# Altium integrated library MF-CAP.IntLib: 28 symbols
Pins are listed as number, name and electrical type; pins without a type are passive.

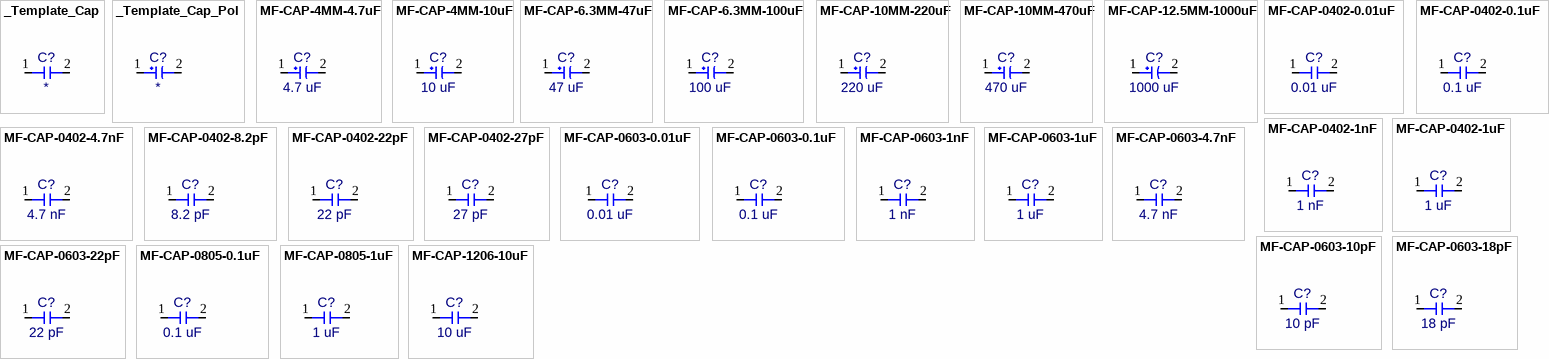
[diagram p0: symbols _Template_Cap to MF-CAP-1206-10uF]

## _Template_Cap
designator C?, comment MF-CAP-  (value not drawn)
Type: *; Operating Temperature Range: *; Value: *; Dielectric: *; RoHS: *; Voltage Rating: *; Tolerance: *; Package: *; ComponentLink1Description: Datasheet; ComponentLink1URL: *; ComponentLink2Description: Supplier Link 1; ComponentLink2URL: *; Supplier 1: Macrofab; Supplier Part Number 1: *; Manufacturer 1: *; Manufacturer Part Number 1: *; Capacitance: *; Mount: SMD
pins: 1, 2

## _Template_Cap_Pol
designator C?, comment MF-CAP-  (value not drawn)
Type: *; Operating Temperature Range: *; Value: *; Case Height: *; RoHS: *; Voltage Rating: *; Tolerance: *; Case Diameter: *; ComponentLink1Description: Datasheet; ComponentLink1URL: *; ComponentLink2Description: Supplier Link 1; ComponentLink2URL: *; Supplier 1: Macrofab; Supplier Part Number 1: *; Manufacturer 1: *; Manufacturer Part Number 1: *; Capacitance: *; Mount: SMD
pins: 1 "+", 2 "-"

## MF-CAP-4MM-4.7uF
designator C?  Capacitance: 4.7 uF  (hidden comment: MF-CAP-4MM-4.7uF)
Capacitor Aluminum Electrolytic 4mm 4.7uF 20% 35V; Manufacturer 1: Panasonic; Manufacturer Part Number 1: EEE1VA4R7AR; Type: Aluminum Electrolytic Capacitors - SMD; Value: 0.0000047; Case Height: 5.5 mm; Operating Temperature Range: - 40 C to + 105 C; RoHS: Compliant; Voltage Rating: 35V; Tolerance: 20%; Case Diameter: 4 mm; ComponentLink1Description: Datasheet; ComponentLink1URL: https://s3.amazonaws.com/devpublic1/datasheets/ABA0000CE115-68351.pdf; ComponentLink2Description: Supplier Link 1; ComponentLink2URL: https://factory.macrofab.com/part/MF-CAP-4MM-4.7uF; Supplier 1: Macrofab; Supplier Part Number 1: MF-CAP-4MM-4.7uF; Mount: SMD
footprint CAP_SMD_4mm (Aluminum Electrolytic Capacitor, Body 4.30x4.30x5.50mm, IPC Medium Density)
pins: 1 "+", 2 "-"

## MF-CAP-4MM-10uF
designator C?  Capacitance: 10 uF  (hidden comment: MF-CAP-4MM-10uF)
Capacitor Aluminum Electrolytic 4mm 10uF 20% 35V; Manufacturer 1: Panasonic; Manufacturer Part Number 1: EEE1VA100WAR; Type: Aluminum Electrolytic Capacitors - SMD; Value: 0.00001; Case Height: 5.5 mm; Operating Temperature Range: - 40 C to + 85 C; RoHS: Compliant; Voltage Rating: 35V; Tolerance: 20%; Case Diameter: 4 mm; ComponentLink1Description: Datasheet; ComponentLink1URL: https://s3.amazonaws.com/devpublic1/datasheets/ABA0000CE115-68351.pdf; ComponentLink2Description: Supplier Link 1; ComponentLink2URL: https://factory.macrofab.com/part/MF-CAP-4MM-10uF; Supplier 1: Macrofab; Supplier Part Number 1: MF-CAP-4MM-10uF; Mount: SMD
footprint CAP_SMD_4mm (Aluminum Electrolytic Capacitor, Body 4.30x4.30x5.50mm, IPC Medium Density)
pins: 1 "+", 2 "-"

## MF-CAP-6.3MM-47uF
designator C?  Capacitance: 47 uF  (hidden comment: MF-CAP-6.3MM-47uF)
Capacitor Aluminum Electrolytic 6.3mm 47uF 20% 35V; Manufacturer 1: Panasonic; Manufacturer Part Number 1: EEE1VA470WAP; Type: Aluminum Electrolytic Capacitors - SMD; Value: 0.000047; Case Height: 7.8 mm; Operating Temperature Range: - 40 C to + 85 C; RoHS: Compliant; Voltage Rating: 35V; Tolerance: 20%; Case Diameter: 6.3 mm; ComponentLink1Description: Datasheet; ComponentLink1URL: https://s3.amazonaws.com/devpublic1/datasheets/ABA0000CE115-68351.pdf; ComponentLink2Description: Supplier Link 1; ComponentLink2URL: https://factory.macrofab.com/part/MF-CAP-6.3MM-47uF; Supplier 1: Macrofab; Supplier Part Number 1: MF-CAP-6.3MM-47uF; Mount: SMD
footprint CAP_SMD_6.3mm (Aluminum Electrolytic Capacitor, Body 6.60x6.60x8.00mm, IPC Medium Density)
pins: 1 "+", 2 "-"

## MF-CAP-6.3MM-100uF
designator C?  Capacitance: 100 uF  (hidden comment: MF-CAP-6.3MM-100uF)
Capacitor Aluminum Electrolytic 6.3mm 100uF 20% 35V; Manufacturer 1: Panasonic; Manufacturer Part Number 1: EEE1VA101XAP; Type: Aluminum Electrolytic Capacitors - SMD; Value: 0.000100; Case Height: 7.8 mm; Operating Temperature Range: - 55 C to + 85 C; RoHS: Compliant; Voltage Rating: 35V; Tolerance: 20%; Case Diameter: 6.3 mm; ComponentLink1Description: Datasheet; ComponentLink1URL: https://s3.amazonaws.com/devpublic1/datasheets/ABA0000CE115-68351.pdf; ComponentLink2Description: Supplier Link 1; ComponentLink2URL: https://factory.macrofab.com/part/MF-CAP-6.3MM-100uF; Supplier 1: Macrofab; Supplier Part Number 1: MF-CAP-6.3MM-100uF; Mount: SMD
footprint CAP_SMD_6.3mm (Aluminum Electrolytic Capacitor, Body 6.60x6.60x8.00mm, IPC Medium Density)
pins: 1 "+", 2 "-"

## MF-CAP-10MM-220uF
designator C?  Capacitance: 220 uF  (hidden comment: MF-CAP-10MM-220uF)
Capacitor Aluminum Electrolytic 10mm 220uF 20% 35V; Manufacturer 1: Panasonic; Manufacturer Part Number 1: EEE1VA221AP; Type: Aluminum Electrolytic Capacitors - SMD; Value: 0.000220; Case Height: 10.5 mm; Operating Temperature Range: - 40 C to + 85 C; RoHS: Compliant; Voltage Rating: 35V; Tolerance: 20%; Case Diameter: 10 mm; ComponentLink1Description: Datasheet; ComponentLink1URL: https://s3.amazonaws.com/devpublic1/datasheets/ABA0000CE115-68351.pdf; ComponentLink2Description: Supplier Link 1; ComponentLink2URL: https://factory.macrofab.com/part/MF-CAP-10MM-220uF; Supplier 1: Macrofab; Supplier Part Number 1: MF-CAP-10MM-220uF; Mount: SMD
footprint CAP_SMD_10mm (Aluminum Electrolytic Capacitor, Body 10.30x10.30x10.50mm, IPC Medium Density)
pins: 1 "+", 2 "-"

## MF-CAP-10MM-470uF
designator C?  Capacitance: 470 uF  (hidden comment: MF-CAP-10MM-470uF)
Capacitor Aluminum Electrolytic 10mm 470uF 20% 25V; Manufacturer 1: Panasonic; Manufacturer Part Number 1: EEE1EA471UAP; Type: Aluminum Electrolytic Capacitors - SMD; Value: 0.00047; Case Height: 12 mm; Operating Temperature Range: - 40 C to + 85 C; RoHS: Compliant; Voltage Rating: 25V; Tolerance: 20%; Case Diameter: 10 mm; ComponentLink1Description: Datasheet; ComponentLink1URL: https://s3.amazonaws.com/devpublic1/datasheets/ABA0000CE120.pdf; ComponentLink2Description: Supplier Link 1; ComponentLink2URL: https://factory.macrofab.com/part/MF-CAP-12.5MM-1000uF; Supplier 1: Macrofab; Supplier Part Number 1: MF-CAP-10MM-470uF; Mount: SMD
footprint CAP_SMD_10mm (Aluminum Electrolytic Capacitor, Body 10.30x10.30x10.50mm, IPC Medium Density)
pins: 1 "+", 2 "-"

## MF-CAP-12.5MM-1000uF
designator C?  Capacitance: 1000 uF  (hidden comment: MF-CAP-12.5MM-1000uF)
Capacitor Aluminum Electrolytic 10mm 220uF 20% 35V; Manufacturer 1: Panasonic; Manufacturer Part Number 1: EEVFK1E102Q; Type: Aluminum Electrolytic Capacitors - SMD; Value: 0.001; Case Height: 13.5 mm; Voltage Rating: 25V; Case Diameter: 12.5 mm; Operating Temperature Range: - 40 C to + 85 C; RoHS: Compliant; Tolerance: 20%; ComponentLink1Description: Datasheet; ComponentLink1URL: https://s3.amazonaws.com/devpublic1/datasheets/ABA0000CE120.pdf; ComponentLink2Description: Supplier Link 1; ComponentLink2URL: https://factory.macrofab.com/part/MF-CAP-12.5MM-1000uF; Supplier 1: Macrofab; Supplier Part Number 1: MF-CAP-12.5MM-1000uF; Mount: SMD
footprint CAP_SMD_12.5mm (Aluminum Electrolytic Capacitor, Body 13.50x13.50x14.00mm, IPC Medium Density)
pins: 1 "+", 2 "-"

## MF-CAP-0402-0.01uF
designator C?  Capacitance: 0.01 uF  (hidden comment: MF-CAP-0402-0.01uF)
Capacitor MLCC 0402 0.01uF 5% 25V; Manufacturer 1: Vishay; Type: Multilayer Ceramic Capacitors (MLCC); Value: 0.00000001; Dielectric: X7R; Operating Temperature Range: - 55 C to + 125 C; RoHS: Compliant; Voltage Rating: 25V; Tolerance: 5%; Package: 0402; ComponentLink1Description: Datasheet; ComponentLink1URL: https://s3.amazonaws.com/devpublic1/datasheets/VJ_W1BC_Caps.pdf; ComponentLink2Description: Supplier Link 1; ComponentLink2URL: https://factory.macrofab.com/part/MF-CAP-0402-0.01uF; Supplier 1: Macrofab; Supplier Part Number 1: MF-CAP-0402-0.01uF; Manufacturer Part Number 1: *; Mount: SMD
footprint C0402 (0402 (1005 Metric))
pins: 1, 2

## MF-CAP-0402-0.1uF
designator C?  Capacitance: 0.1 uF  (hidden comment: MF-CAP-0402-0.1uF)
Capacitor MLCC 0402 0.1uF 10% 16V; Manufacturer 1: Murata; Manufacturer Part Number 1: GRM155R71C104KA88D; Type: Multilayer Ceramic Capacitors (MLCC); Value: 0.0000001; Dielectric: X7R; Operating Temperature Range: - 55 C to + 125 C; RoHS: Compliant; Voltage Rating: 16V; Tolerance: 10%; Package: 0402; ComponentLink1Description: Datasheet; ComponentLink1URL: https://s3.amazonaws.com/devpublic1/datasheets/GRM155R71C104KA88.pdf; ComponentLink2Description: Supplier Link 1; ComponentLink2URL: https://factory.macrofab.com/part/MF-CAP-0402-0.1uF; Supplier 1: Macrofab; Supplier Part Number 1: MF-CAP-0402-0.1uF; Mount: SMD
footprint C0402 (0402 (1005 Metric))
pins: 1, 2

## MF-CAP-0402-1nF
designator C?  Capacitance: 1 nF  (hidden comment: MF-CAP-0402-1nF)
Capacitor MLCC 0402 1nF 5% 50V; Manufacturer 1: Murata; Manufacturer Part Number 1: GRM155R71H102JA01D; Type: Multilayer Ceramic Capacitors (MLCC); Value: 0.000000001; Dielectric: X7R; Operating Temperature Range: - 55 C to + 125 C; RoHS: Compliant; Voltage Rating: 50V; Tolerance: 5%; Package: 0402; ComponentLink1Description: Datasheet; ComponentLink1URL: https://s3.amazonaws.com/devpublic1/datasheets/GRM155R71H102JA01J.pdf; ComponentLink2Description: Supplier Link 1; ComponentLink2URL: https://factory.macrofab.com/part/MF-CAP-0402-1nF; Supplier 1: Macrofab; Supplier Part Number 1: MF-CAP-0402-1nF; Mount: SMD
footprint C0402 (0402 (1005 Metric))
pins: 1, 2

## MF-CAP-0402-1uF
designator C?  Capacitance: 1 uF  (hidden comment: MF-CAP-0402-1uF)
Capacitor MLCC 0402 1uF 10% 16V; Manufacturer 1: TDK; Manufacturer Part Number 1: C1005X5R1C105K050BC; Type: Multilayer Ceramic Capacitors (MLCC); Value: 0.000001; Dielectric: X5R; Operating Temperature Range: - 55 C to + 85 C; RoHS: Compliant; Voltage Rating: 16V; Tolerance: 10%; Package: 0402; ComponentLink1Description: Datasheet; ComponentLink1URL: https://s3.amazonaws.com/devpublic1/datasheets/C1005X5R1C105K050BC-264364.pdf; ComponentLink2Description: Supplier Link 1; ComponentLink2URL: https://factory.macrofab.com/part/MF-CAP-0402-1uF; Supplier 1: Macrofab; Supplier Part Number 1: MF-CAP-0402-1uF; Mount: SMD
footprint C0402 (0402 (1005 Metric))
pins: 1, 2

## MF-CAP-0402-4.7nF
designator C?  Capacitance: 4.7 nF  (hidden comment: MF-CAP-0402-4.7nF)
Capacitor MLCC 0402 4.7nF 5% 50V; Manufacturer 1: Murata; Manufacturer Part Number 1: GRM155R71H472JA01D; Type: Multilayer Ceramic Capacitors (MLCC); Value: 0.0000000047; Dielectric: X7R; Operating Temperature Range: - 55 C to + 125 C; RoHS: Compliant; Voltage Rating: 50V; Tolerance: 5%; Package: 0402; ComponentLink1Description: Datasheet; ComponentLink1URL: https://s3.amazonaws.com/devpublic1/datasheets/GRM155R71H472JA01D.pdf; ComponentLink2Description: Supplier Link 1; ComponentLink2URL: https://factory.macrofab.com/part/MF-CAP-0402-4.7nF; Supplier 1: Macrofab; Supplier Part Number 1: MF-CAP-0402-4.7nF; Mount: SMD
footprint C0402 (0402 (1005 Metric))
pins: 1, 2

## MF-CAP-0402-8.2pF
designator C?  Capacitance: 8.2 pF  (hidden comment: MF-CAP-0402-8.2pF)
Capacitor MLCC 0402 8.2pF +/-0.25pF 25V; Manufacturer 1: Murata; Manufacturer Part Number 1: GRM1555C1E8R2CA01D; Type: Multilayer Ceramic Capacitors (MLCC); Value: 0.0000000000082; Dielectric: C0G (NP0); Operating Temperature Range: - 55 C to + 125 C; RoHS: Compliant; Voltage Rating: 25V; Tolerance: +/-0.25pF; Package: 0402; ComponentLink1Description: Datasheet; ComponentLink1URL: https://s3.amazonaws.com/devpublic1/datasheets/GRM1555C1E8R2CA01D.pdf; ComponentLink2Description: Supplier Link 1; ComponentLink2URL: https://factory.macrofab.com/part/MF-CAP-0402-8.2pF; Supplier 1: Macrofab; Supplier Part Number 1: MF-CAP-0402-8.2pF; Mount: SMD
footprint C0402 (0402 (1005 Metric))
pins: 1, 2

## MF-CAP-0402-22pF
designator C?  Capacitance: 22 pF  (hidden comment: MF-CAP-0402-22pF)
Capacitor MLCC 0402 22pF 5% 50V; Manufacturer 1: Murata; Manufacturer Part Number 1: GRM1555C1H220JA01D; Type: Multilayer Ceramic Capacitors (MLCC); Value: 0.000000000022; Dielectric: C0G (NP0); Operating Temperature Range: - 55 C to + 125 C; RoHS: Compliant; Voltage Rating: 50V; Tolerance: 5%; Package: 0402; ComponentLink1Description: Datasheet; ComponentLink1URL: https://s3.amazonaws.com/devpublic1/datasheets/GRM1555C1H220JA01D.pdf; ComponentLink2Description: Supplier Link 1; ComponentLink2URL: https://factory.macrofab.com/part/MF-CAP-0402-22pF; Supplier 1: Macrofab; Supplier Part Number 1: MF-CAP-0402-22pF; Mount: SMD
footprint C0402 (0402 (1005 Metric))
pins: 1, 2

## MF-CAP-0402-27pF
designator C?  Capacitance: 27 pF  (hidden comment: MF-CAP-0402-27pF)
Capacitor MLCC 0402 27pF 5% 50V; Manufacturer 1: Murata; Manufacturer Part Number 1: GRM1555C1H270JA01D; Type: Multilayer Ceramic Capacitors (MLCC); Value: 0.000000000027; Dielectric: C0G (NP0); Operating Temperature Range: - 55 C to + 125 C; RoHS: Compliant; Voltage Rating: 50V; Tolerance: 5%; Package: 0402; ComponentLink1Description: Datasheet; ComponentLink1URL: https://s3.amazonaws.com/devpublic1/datasheets/GRM1555C1H270JA01D.pdf; ComponentLink2Description: Supplier Link 1; ComponentLink2URL: https://factory.macrofab.com/part/MF-CAP-0402-27pF; Supplier 1: Macrofab; Supplier Part Number 1: MF-CAP-0402-27pF; Mount: SMD
footprint C0402 (0402 (1005 Metric))
pins: 1, 2

## MF-CAP-0603-0.01uF
designator C?  Capacitance: 0.01 uF  (hidden comment: MF-CAP-0603-0.01uF)
Capacitor MLCC 0603 0.01uF 10% 50V; Manufacturer 1: AVX; Type: Multilayer Ceramic Capacitors (MLCC); Value: 0.00000001; Dielectric: X7R; Operating Temperature Range: - 55 C to + 125 C; RoHS: Compliant; Voltage Rating: 50V; Tolerance: 10%; Package: 0603; ComponentLink1Description: Datasheet; ComponentLink1URL: https://s3.amazonaws.com/devpublic1/datasheets/AVX_X7R%20Caps.pdf; ComponentLink2Description: Supplier Link 1; ComponentLink2URL: https://factory.macrofab.com/part/MF-CAP-0603-0.01uF; Supplier 1: Macrofab; Supplier Part Number 1: MF-CAP-0603-0.01uF; Manufacturer Part Number 1: *; Mount: SMD
footprint C0603 (0603 (1608 Metric))
pins: 1, 2

## MF-CAP-0603-0.1uF
designator C?  Capacitance: 0.1 uF  (hidden comment: MF-CAP-0603-0.1uF)
Capacitor MLCC 0603 0.1uF 10% 25V; Manufacturer 1: Murata; Manufacturer Part Number 1: GRM188R71E104KA01D; Type: Multilayer Ceramic Capacitors (MLCC); Value: 0.0000001; Dielectric: X7R; Operating Temperature Range: - 55 C to + 125 C; RoHS: Compliant; Voltage Rating: 25V; Tolerance: 10%; Package: 0603; ComponentLink1Description: Datasheet; ComponentLink1URL: https://s3.amazonaws.com/devpublic1/datasheets/GRM188R71E104KA01D.pdf; ComponentLink2Description: Supplier Link 1; ComponentLink2URL: https://factory.macrofab.com/part/MF-CAP-0603-0.1uF; Supplier 1: Macrofab; Supplier Part Number 1: MF-CAP-0603-0.1uF; Mount: SMD
footprint C0603 (0603 (1608 Metric))
pins: 1, 2

## MF-CAP-0603-1nF
designator C?  Capacitance: 1 nF  (hidden comment: MF-CAP-0603-1nF)
Capacitor MLCC 0603 1nF 10% 50V; Manufacturer 1: Kemet; Type: Multilayer Ceramic Capacitors (MLCC); Value: 0.000000001; Dielectric: X7R; Operating Temperature Range: - 55 C to + 125 C; RoHS: Compliant; Voltage Rating: 50V; Tolerance: 10%; Package: 0603; ComponentLink1Description: Datasheet; ComponentLink1URL: https://s3.amazonaws.com/devpublic1/datasheets/KEM_C1002_X7R_SMD.pdf; ComponentLink2Description: Supplier Link 1; ComponentLink2URL: https://factory.macrofab.com/part/MF-CAP-0603-1nF; Supplier 1: Macrofab; Supplier Part Number 1: MF-CAP-0603-1nF; Manufacturer Part Number 1: *; Mount: SMD
footprint C0603 (0603 (1608 Metric))
pins: 1, 2

## MF-CAP-0603-1uF
designator C?  Capacitance: 1 uF  (hidden comment: MF-CAP-0603-1uF)
Capacitor MLCC 0603 1uF 10% 25V; Manufacturer 1: Taiyo Yuden; Manufacturer Part Number 1: TMK107B7105KA-T; Type: Multilayer Ceramic Capacitors (MLCC); Value: 0.000001; Dielectric: X7R; Operating Temperature Range: - 55 C to + 125 C; RoHS: Compliant; Voltage Rating: 25V; Tolerance: 10%; Package: 0603; ComponentLink1Description: Datasheet; ComponentLink1URL: https://s3.amazonaws.com/devpublic1/datasheets/TMK107B7105KA-T_SS.pdf; ComponentLink2Description: Supplier Link 1; ComponentLink2URL: https://factory.macrofab.com/part/MF-CAP-0603-1uF; Supplier 1: Macrofab; Supplier Part Number 1: MF-CAP-0603-1uF; Mount: SMD
footprint C0603 (0603 (1608 Metric))
pins: 1, 2

## MF-CAP-0603-4.7nF
designator C?  Capacitance: 4.7 nF  (hidden comment: MF-CAP-0603-4.7nF)
Capacitor MLCC 0603 4.7nF 10% 50V; Manufacturer 1: Kemet; Type: Multilayer Ceramic Capacitors (MLCC); Value: 0.0000000047; Dielectric: X7R; Operating Temperature Range: - 55 C to + 125 C; RoHS: Compliant; Voltage Rating: 50V; Tolerance: 10%; Package: 0603; ComponentLink1Description: Datasheet; ComponentLink1URL: https://s3.amazonaws.com/devpublic1/datasheets/KEM_C1002_X7R_SMD.pdf; ComponentLink2Description: Supplier Link 1; ComponentLink2URL: https://factory.macrofab.com/part/MF-CAP-0603-4.7nF; Supplier 1: Macrofab; Supplier Part Number 1: MF-CAP-0603-4.7nF; Manufacturer Part Number 1: *; Mount: SMD
footprint C0603 (0603 (1608 Metric))
pins: 1, 2

## MF-CAP-0603-10pF
designator C?  Capacitance: 10 pF  (hidden comment: MF-CAP-0603-10pF)
Capacitor MLCC 0603 10pF 50V C0G +/- 0.5pF; Manufacturer 1: TDK; Type: Multilayer Ceramic Capacitors (MLCC); Value: 0.000000000010; Dielectric: C0G (NP0); Operating Temperature Range: - 55 C to + 125 C; RoHS: Compliant; Voltage Rating: 50V; Tolerance: +/- 0.5pF; Package: 0603; ComponentLink1Description: Datasheet; ComponentLink1URL: https://s3.amazonaws.com/mfprodpublic/datasheets/mlcc_commercial_general_en.pdf; ComponentLink2Description: Supplier Link 1; ComponentLink2URL: https://factory.macrofab.com/part/MF-CAP-0603-10pF; Supplier 1: Macrofab; Supplier Part Number 1: MF-CAP-0603-10pF; Manufacturer Part Number 1: *; Mount: SMD
footprint C0603 (0603 (1608 Metric))
pins: 1, 2

## MF-CAP-0603-18pF
designator C?  Capacitance: 18 pF  (hidden comment: MF-CAP-0603-18pF)
Capacitor MLCC 0603 18pF 5% 50V; Manufacturer 1: Kemet; Type: Multilayer Ceramic Capacitors (MLCC); Value: 0.000000000018; Dielectric: C0G (NP0); Operating Temperature Range: - 55 C to + 125 C; RoHS: Compliant; Voltage Rating: 50V; Tolerance: 5%; Package: 0603; ComponentLink1Description: Datasheet; ComponentLink1URL: https://s3.amazonaws.com/devpublic1/datasheets/KEM_C1003_C0G_SMD-379434.pdf; ComponentLink2Description: Supplier Link 1; ComponentLink2URL: https://factory.macrofab.com/part/MF-CAP-0603-18pF; Supplier 1: Macrofab; Supplier Part Number 1: MF-CAP-0603-18pF; Manufacturer Part Number 1: *; Mount: SMD
footprint C0603 (0603 (1608 Metric))
pins: 1, 2

## MF-CAP-0603-22pF
designator C?  Capacitance: 22 pF  (hidden comment: MF-CAP-0603-22pF)
Capacitor MLCC 0603 22pF 5% 100V; Manufacturer 1: Kemet; Type: Multilayer Ceramic Capacitors (MLCC); Value: 0.000000000022; Dielectric: C0G (NP0); Operating Temperature Range: - 55 C to + 125 C; RoHS: Compliant; Voltage Rating: 100V; Tolerance: 5%; Package: 0603; ComponentLink1Description: Datasheet; ComponentLink1URL: https://s3.amazonaws.com/devpublic1/datasheets/KEM_C1003_C0G_SMD-380471.pdf; ComponentLink2Description: Supplier Link 1; ComponentLink2URL: https://factory.macrofab.com/part/MF-CAP-0603-22pF; Supplier 1: Macrofab; Supplier Part Number 1: MF-CAP-0603-22pF; Manufacturer Part Number 1: *; Mount: SMD
footprint C0603 (0603 (1608 Metric))
pins: 1, 2

## MF-CAP-0805-0.1uF
designator C?  Capacitance: 0.1 uF  (hidden comment: MF-CAP-0805-0.1uF)
Capacitor MLCC 0805 0.1uF -20% +80% 50V; Manufacturer 1: Kemet; Type: Multilayer Ceramic Capacitors (MLCC); Value: 0.0000001; Dielectric: Y5V; Operating Temperature Range: - 55 C to + 125 C; RoHS: Compliant; Voltage Rating: 50V; Tolerance: -20% +80%; Package: 0805; ComponentLink1Description: Datasheet; ComponentLink1URL: https://s3.amazonaws.com/devpublic1/datasheets/KEM_C1005_Y5V_SMD-357824.pdf; ComponentLink2Description: Supplier Link 1; ComponentLink2URL: https://factory.macrofab.com/part/MF-CAP-0805-0.1uF; Supplier 1: Macrofab; Supplier Part Number 1: MF-CAP-0805-0.1uF; Manufacturer Part Number 1: *; Mount: SMD
footprint C0805 (0805 (2012 Metric))
pins: 1, 2

## MF-CAP-0805-1uF
designator C?  Capacitance: 1 uF  (hidden comment: MF-CAP-0805-1uF)
Capacitor MLCC 0805 1uF -20%, +80% 16V; Manufacturer 1: Taiyo Yuden; Manufacturer Part Number 1: UMK212F105ZG-T; Type: Multilayer Ceramic Capacitors (MLCC); Value: 0.000001; Dielectric: Y5V; Operating Temperature Range: - 55 C to + 125 C; RoHS: Compliant; Voltage Rating: 16V; Tolerance: -20%, +80%; Package: 0805; ComponentLink1Description: Datasheet; ComponentLink1URL: https://s3.amazonaws.com/devpublic1/datasheets/UMK212F105ZG-T_SS.pdf; ComponentLink2Description: Supplier Link 1; ComponentLink2URL: https://factory.macrofab.com/part/MF-CAP-0805-1uF; Supplier 1: Macrofab; Supplier Part Number 1: MF-CAP-0805-1uF; Mount: SMD
footprint C0805 (0805 (2012 Metric))
pins: 1, 2

## MF-CAP-1206-10uF
designator C?  Capacitance: 10 uF  (hidden comment: MF-CAP-1206-10uF)
Capacitor MLCC 1206 10uF 10% 16V; Manufacturer 1: TDK; Manufacturer Part Number 1: C3216X5R1C106M160AA; Type: Multilayer Ceramic Capacitors (MLCC); Value: 0.00001; Dielectric: X5R; Operating Temperature Range: - 55 C to + 125 C; RoHS: Compliant; Voltage Rating: 16V; Tolerance: 10%; Package: 1206; ComponentLink1Description: Datasheet; ComponentLink1URL: https://s3.amazonaws.com/devpublic1/datasheets/C3216X5R1C106M160AA-265193.pdf; ComponentLink2Description: Supplier Link 1; ComponentLink2URL: https://factory.macrofab.com/part/MF-CAP-1206-10uF; Supplier 1: Macrofab; Supplier Part Number 1: MF-CAP-1206-10uF; Mount: SMD
footprint C1206 (1206 (3216 Metric))
pins: 1, 2